# Altium footprint library Epcos.PcbLib: 1 footprints
Each footprint in its own frame and in the unit in brackets; x right, y up, seen from the top. Pads: shape width x height; smd on the part's side, far side on the other; paste and mask are expansions set on the pad; w line width, h text height; cw(c..) or ccw(c..) is an arc to the next point about the centre after c.
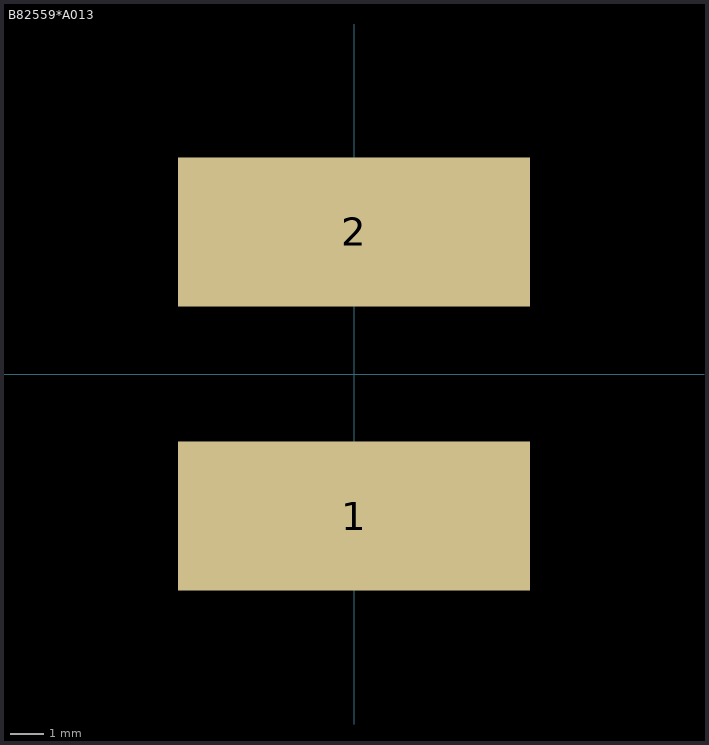
[diagram p0: the footprint, top view; thin cyan lines are the x and y axes]

## B82559*A013 [mm]
pads (2):
  rect 10.4x4.4 smd: 1(0,-4.2) 2(0,4.2)
3D body: height 5.95, standoff 0, extent -4,-7.525 4,7.55
3D body: height 5.5, standoff 0.5, extent -5.525,-5.675 5.432,5.303